# Altium schematic symbol library USB, DVI, HDMI Connectors.SchLib: 3 symbols
Pins are listed as number, name and electrical type; pins without a type are passive.

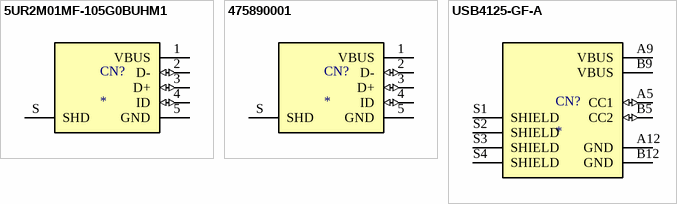
[diagram p0: symbols 5UR2M01MF-105G0BUHM1 to USB4125-GF-A]

## 5UR2M01MF-105G0BUHM1
designator CN?
CONN RCPT MICRO USB AB 5P SMD RA
footprint AMTEK_5UR2M01MF-105G0BUHM1
pins: 1 VBUS, 2 D- (io), 3 D+ (io), 4 ID (io), 5 GND, S SHD

## 475890001
designator CN?
CONN RCPT MICRO USB AB 5P SMD RA; Supplier 1: Digi-Key; Supplier 2: Farnell; Supplier 3: Mouser; Supplier 4: Arrow Electronics; Supplier Part Number 1: WM17143CT-ND; Supplier Part Number 2: 3500670; Supplier Part Number 3: 538-47589-0001; Supplier Part Number 4: 47589-0001
footprint MOLEX_475890001
pins: 1 VBUS, 2 D- (io), 3 D+ (io), 4 ID (io), 5 GND, S SHD

## USB4125-GF-A
designator CN?
CONN RCPT TYPE C 6P SMD RA; Supplier 1: Digikey; Supplier Part Number 1: 2073-USB4125-GF-A-0190CT-ND; Supplier 2: Farnell; Supplier Part Number 2: 3777661; Supplier 3: Mouser; Supplier Part Number 3: 640-USB4125-GF-A-190
footprint GCT_USB4125-GF-A
pins: A5 CC1 (io), A9 VBUS (power), A12 GND (power), B5 CC2 (io), B9 VBUS (power), B12 GND (power), S1 SHIELD, S2 SHIELD, S3 SHIELD, S4 SHIELD